# EAGLE library part DS2408 (library openSX70)
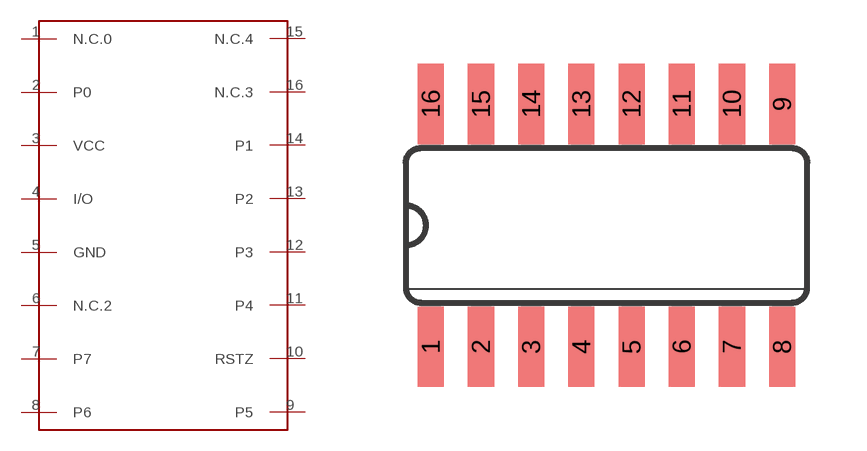
[diagram p2: symbol with the pads of SO16; footprint SO16]

Designator prefix -

## DS2408  [SO16]
1  N.C.0
2  P0
3  VCC
4  I/O
5  GND
6  N.C.2
7  P7
8  P6
9  P5
10  RSTZ
11  P4
12  P3
13  P2
14  P1
15  N.C.4
16  N.C.3

## Footprint SO16 (pad centres in mm)
Small Outline package 150 mil
smd 0.66 x 2.032: 1 -4.445,-3.073; 2 -3.175,-3.073; 3 -1.905,-3.073; 4 -0.635,-3.073; 5 0.635,-3.073; 6 1.905,-3.073; 7 3.175,-3.073; 8 4.445,-3.073; 9 4.445,3.073; 10 3.175,3.073; 11 1.905,3.073; 12 0.635,3.073; 13 -0.635,3.073; 14 -1.905,3.073; 15 -3.175,3.073; 16 -4.445,3.073